# EAGLE library part FAN2012 (library fairchild-semi)
PWM Buck Regulator 1.5A Low Voltage Current Mode Synchronous
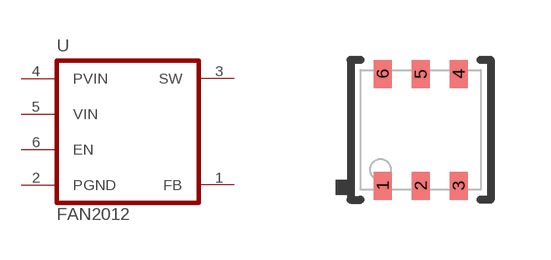
[diagram p9: symbol with the pads of MLP6; footprint MLP6]

Designator prefix U

## FAN2012MLP  [MLP6]
1  FB  in
2  PGND  pwr
3  SW  out
4  PVIN  in
5  VIN  in
6  EN  in

## Footprint MLP6 (pad centres in mm)
MLP 6 body 3x3mm, pitch 0.95mm
smd 0.45 x 0.7: 1 -0.95,-1.4; 2 0,-1.4; 3 0.95,-1.4; 4 0.95,1.4; 5 0,1.4; 6 -0.95,1.4